# Altium footprint library Relay.PcbLib: 2 footprints
Each footprint in its own frame and in the unit in brackets; x right, y up, seen from the top. Pads: shape width x height; smd on the part's side, far side on the other; paste and mask are expansions set on the pad; w line width, h text height; cw(c..) or ccw(c..) is an arc to the next point about the centre after c.
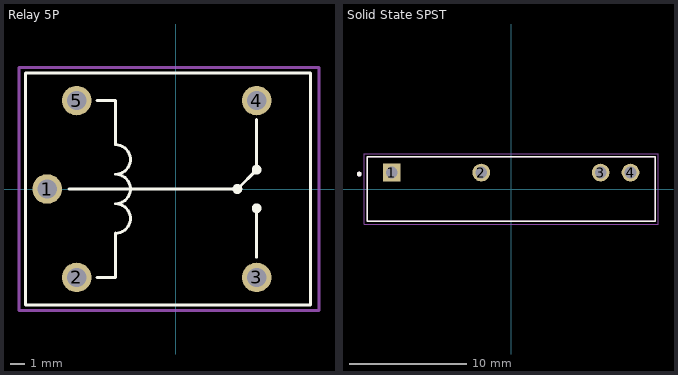
[diagram p0: the footprints below, top view; thin cyan lines are the x and y axes]

## Relay 5P [mm]
pads (5):
  round 2 hole 1.3: 1(-8.7,0) 2(-6.7,-6) 3(5.5,-6) 4(5.5,6) 5(-6.7,6)
Top Overlay:
  circle w0.254: c5.5,-1.309 r0.205
  circle w0.254: c4.191,0 r0.205
  circle w0.254: c5.5,1.309 r0.205
  lines w0.2: -7.239,0 4.191,0 5.5,1.309 5.5,2.739 5.5,4.699 ; -5.334,-6 -4.064,-6 -4.064,-2.975 ; -5.334,6 -4.064,6 -4.064,3 cw(c-4.064,2) -4.064,1 cw(c-4.064,0) -4.064,-1 cw(c-4.064,-2) -4.064,-3 ; 5.5,-4.627 5.5,-2.667 5.5,-1.309 ; -10.16,-7.874 9.144,-7.874 9.144,7.874 -10.16,7.874 -10.16,-7.874
Mechanical 15:
  lines w0.2: -10.615,-8.25 9.726,-8.25 9.726,8.25 -10.615,8.25 -10.615,-8.25
3D body "Relay.STEP": height 15.9, standoff -2.8, extent -10.108,-7.8 9.092,7.8

## Solid State SPST [mm]
pads (4):
  rect 1.508x1.508 hole 1: 1(-10.16,1.4)
  round 1.508 hole 1: 2(-2.54,1.4) 3(7.62,1.4) 4(10.16,1.4)
Top Overlay:
  circle w0.2: c-12.93,1.27 r0.1
  lines w0.127: -12.25,-2.75 12.25,-2.75 12.25,2.75 -12.25,2.75 -12.25,-2.75
Mechanical 13:
  circle w0.2: c-12.93,1.27 r0.1
  lines w0.127: -12.25,-2.75 12.25,-2.75 12.25,2.75 -12.25,2.75 -12.25,-2.75
Mechanical 15:
  lines w0.05: -12.5,-3 -12.5,3 12.5,3 12.5,-3 -12.5,-3
3D body "Solid State SPST-NO Relay.STEP": height 20.5, standoff -3.9, extent -12.308,-2.623 12.192,2.877